# EAGLE library part 39-30-?06? (library con-molex-mini-fit)
HEADER
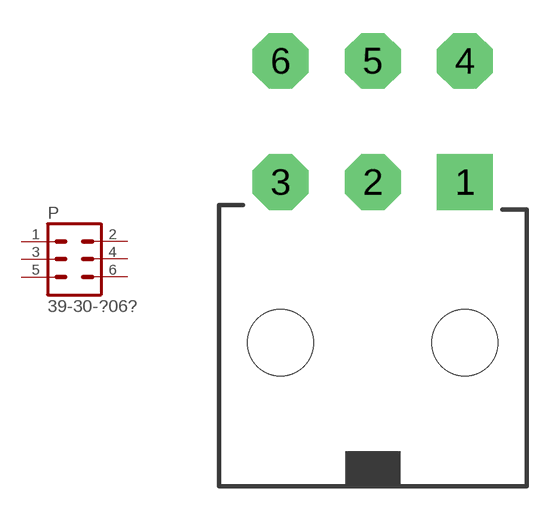
[diagram p0: symbol with the pads of 39-30-?06?; footprint 39-30-?06?]

Designator prefix P

## 39-30-06  [39-30-?06?]
1  1  pas
2  2  pas
3  3  pas
4  4  pas
5  5  pas
6  6  pas

## Footprint 39-30-?06? (pad centres in mm)
HEADER
drill 1.422 pad 2.54 square: 1 4.191,0
drill 1.422 pad 2.54 octagon: 2 0,0; 3 -4.191,0; 4 4.191,5.512; 5 0,5.512; 6 -4.191,5.512
hole 3 at -4.191,-7.3
hole 3 at 4.191,-7.3